# Altium schematic symbol library ECHU1H681GX5.SchLib: 2 symbols
Pins are listed as number, name and electrical type; pins without a type are passive.

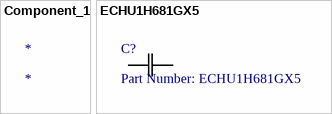
[diagram p0: symbols Component_1 to ECHU1H681GX5]

## Component_1
designator *

## ECHU1H681GX5
designator C?, comment Part Number: ECHU1H681GX5
No Description Available; Vendor: Panasonic; Built_By: EMA_UL_Team; Type: DEV; Manufacturer_Part_Number: ECHU1H681GX5; Copyright: Copyright (C) 2018 Accelerated Designs. All rights reserved; RefDes: RefDes; Value: Value
footprint CAP_J1
pins: 1, 2